# EAGLE library part XFMR_750811290 (library wheat)
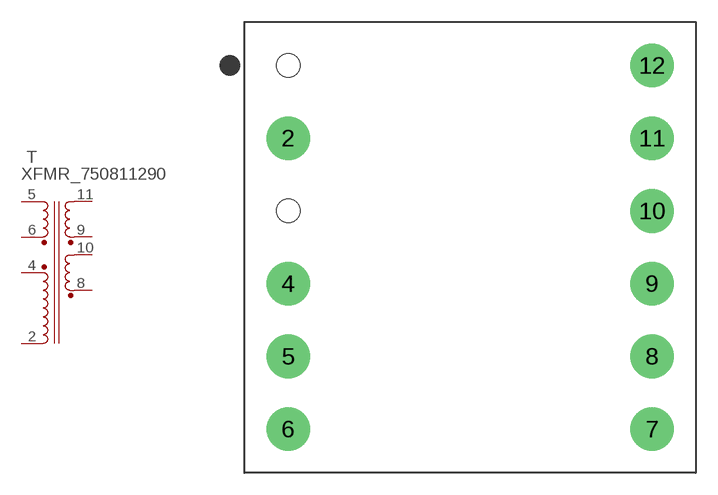
[diagram p213: symbol with the pads of XFMR_EER28_WURTH; footprint XFMR_EER28_WURTH]

Designator prefix T

## XFMR_750811290  [XFMR_EER28_WURTH]
2  PRIN  pas
4  PRIP  pas
5  BIASN  pas
6  BIASP  pas
8  S2P  pas
9  S1P  pas
10  S2N  pas
11  S1N  pas

## Footprint XFMR_EER28_WURTH (pad centres in mm)
drill 1.6 pad 3: 2 -12.5,7.5; 4 -12.5,-2.5; 5 -12.5,-7.5; 6 -12.5,-12.5; 7 12.5,-12.5; 8 12.5,-7.5; 9 12.5,-2.5; 10 12.5,2.5; 11 12.5,7.5; 12 12.5,12.5
hole 1.626 at -12.5,12.5
hole 1.626 at -12.5,2.5